# EAGLE library part TDA8586Q (library Audio-Power-amlifier V.2.0)
Power amplifier with load detection and auto BTL/SE selection
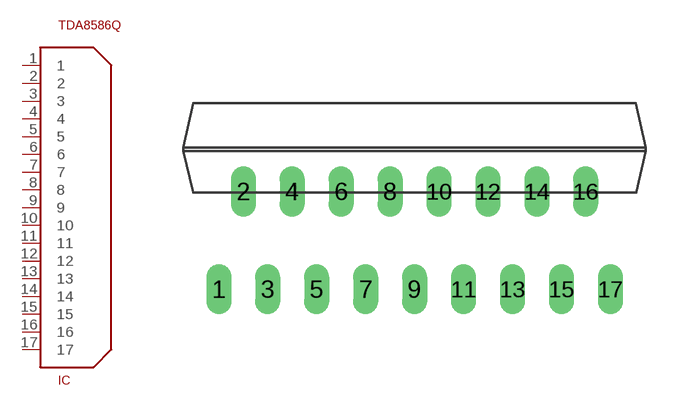
[diagram p58: symbol with the pads of SOT243-1; footprint SOT243-1]

Designator prefix IC

## TDA8586Q  [SOT243-1]
1  1  out
2  2  pwr
3  3
4  4  out
5  5  in
6  6  in
7  7  in
8  8  in
9  9  pwr
10  10  pwr
11  11
12  12
13  13
14  14  out
15  15
16  16  pwr
17  17  out

## Footprint SOT243-1 (pad centres in mm)
DBS17P: plastic DIL-bent-SIL power package; 17 leads (lead length 7.7 mm)
drill 0.8 long: 1 -10.16,-5.08; 2 -8.89,0; 3 -7.62,-5.08; 4 -6.35,0; 5 -5.08,-5.08; 6 -3.81,0; 7 -2.54,-5.08; 8 -1.27,0; 9 0,-5.08; 10 1.27,0; 11 2.54,-5.08; 12 3.81,0; 13 5.08,-5.08; 14 6.35,0; 15 7.62,-5.08; 16 8.89,0; 17 10.17,-5.08